# Altium schematic symbol library MBR20200CT.SchLib: 1 symbol
Pins are listed as number, name and electrical type; pins without a type are passive.

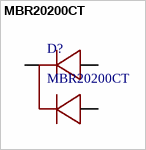
[diagram p0: symbol MBR20200CT]

## MBR20200CT
designator D?
Come catod
footprint TO220V
pins: 1, 2, 3